# Altium footprint library XCL24x.PcbLib: 1 footprints
Each footprint in its own frame and in the unit in brackets; x right, y up, seen from the top. Pads: shape width x height; smd on the part's side, far side on the other; paste and mask are expansions set on the pad; w line width, h text height; cw(c..) or ccw(c..) is an arc to the next point about the centre after c.
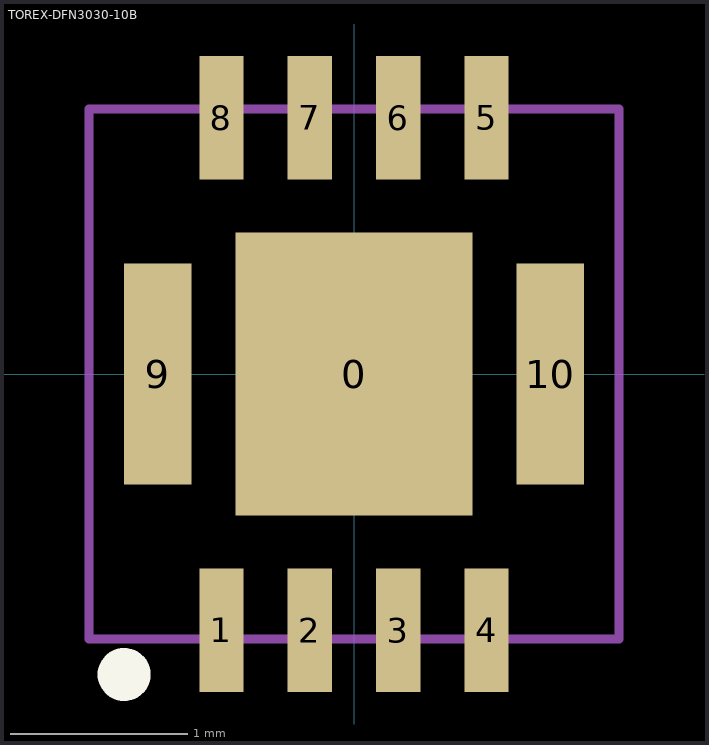
[diagram p0: the footprint, top view; thin cyan lines are the x and y axes]

## TOREX-DFN3030-10B [mm] "TOREX DFN3030-10B"
height 1.7
pads (11):
  rect 1.34x1.6 smd paste-2539.97 mask+0.05: 0(0,0)
  rect 0.25x0.7 smd mask+0.05: 1(-0.75,-1.45) 2(-0.25,-1.45) 3(0.25,-1.45) 4(0.75,-1.45) 5(0.75,1.45) 6(0.25,1.45) 7(-0.25,1.45) 8(-0.75,1.45)
  rect 0.38x1.25 smd mask+0.05: 9(-1.11,0) 10(1.11,0)
Top Overlay:
  circle w0.15: c-1.3,-1.7 r0.075
Top Paste:
  region: -0.2,0.7 -0.57,0.7 -0.57,-0.7 -0.2,-0.7
  rectangle: 0.2,-0.7 0.57,0.7
Top 3D Body:
  lines w0.05: -1.5,-1.5 -1.5,1.5 1.5,1.5 1.5,-1.5 -1.5,-1.5
3D body "XCL247B0K1H2-G.stp": height 1.65, standoff -0.01, extent -1.5,-1.51 1.5,1.51